# Altium footprint library TBP02R138102BE.PcbLib: 1 footprints
Each footprint in its own frame and in the unit in brackets; x right, y up, seen from the top. Pads: shape width x height; smd on the part's side, far side on the other; paste and mask are expansions set on the pad; w line width, h text height; cw(c..) or ccw(c..) is an arc to the next point about the centre after c.
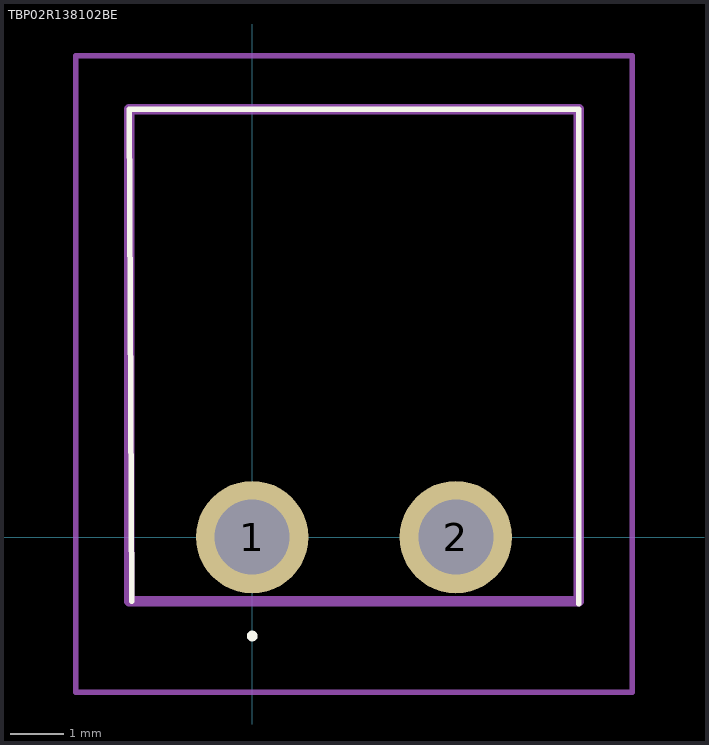
[diagram p0: the footprint, top view; thin cyan lines are the x and y axes]

## TBP02R138102BE [mm]
pads (2):
  round 2.1 hole 1.4: 1(0,0) 2(3.81,0)
Top Overlay:
  lines w0.1: -2.25,-1.2 -2.3,8 6.11,8 6.11,-1.25 ; 0,-1.9 0,-1.9 ; 0,-1.9 ccw(c0,-1.85) 0,-1.8 ; 0,-1.9 cw(c0,-1.85) 0,-1.8 ; 0,-1.9 0,-1.9 ; 0,-1.9 ccw(c0,-1.85) 0,-1.8 ; 0,-1.8 0,-1.8
Mechanical 15:
  lines w0.2: -2.3,-1.2 6.11,-1.2 6.11,8 -2.3,8 -2.3,-1.2
Mechanical 20:
  lines w0.1: -3.3,-2.9 7.11,-2.9 7.11,9 -3.3,9 -3.3,-2.9